# Altium schematic symbol library 排母.SchLib: 42 symbols
Pins are listed as number, name and electrical type; pins without a type are passive.

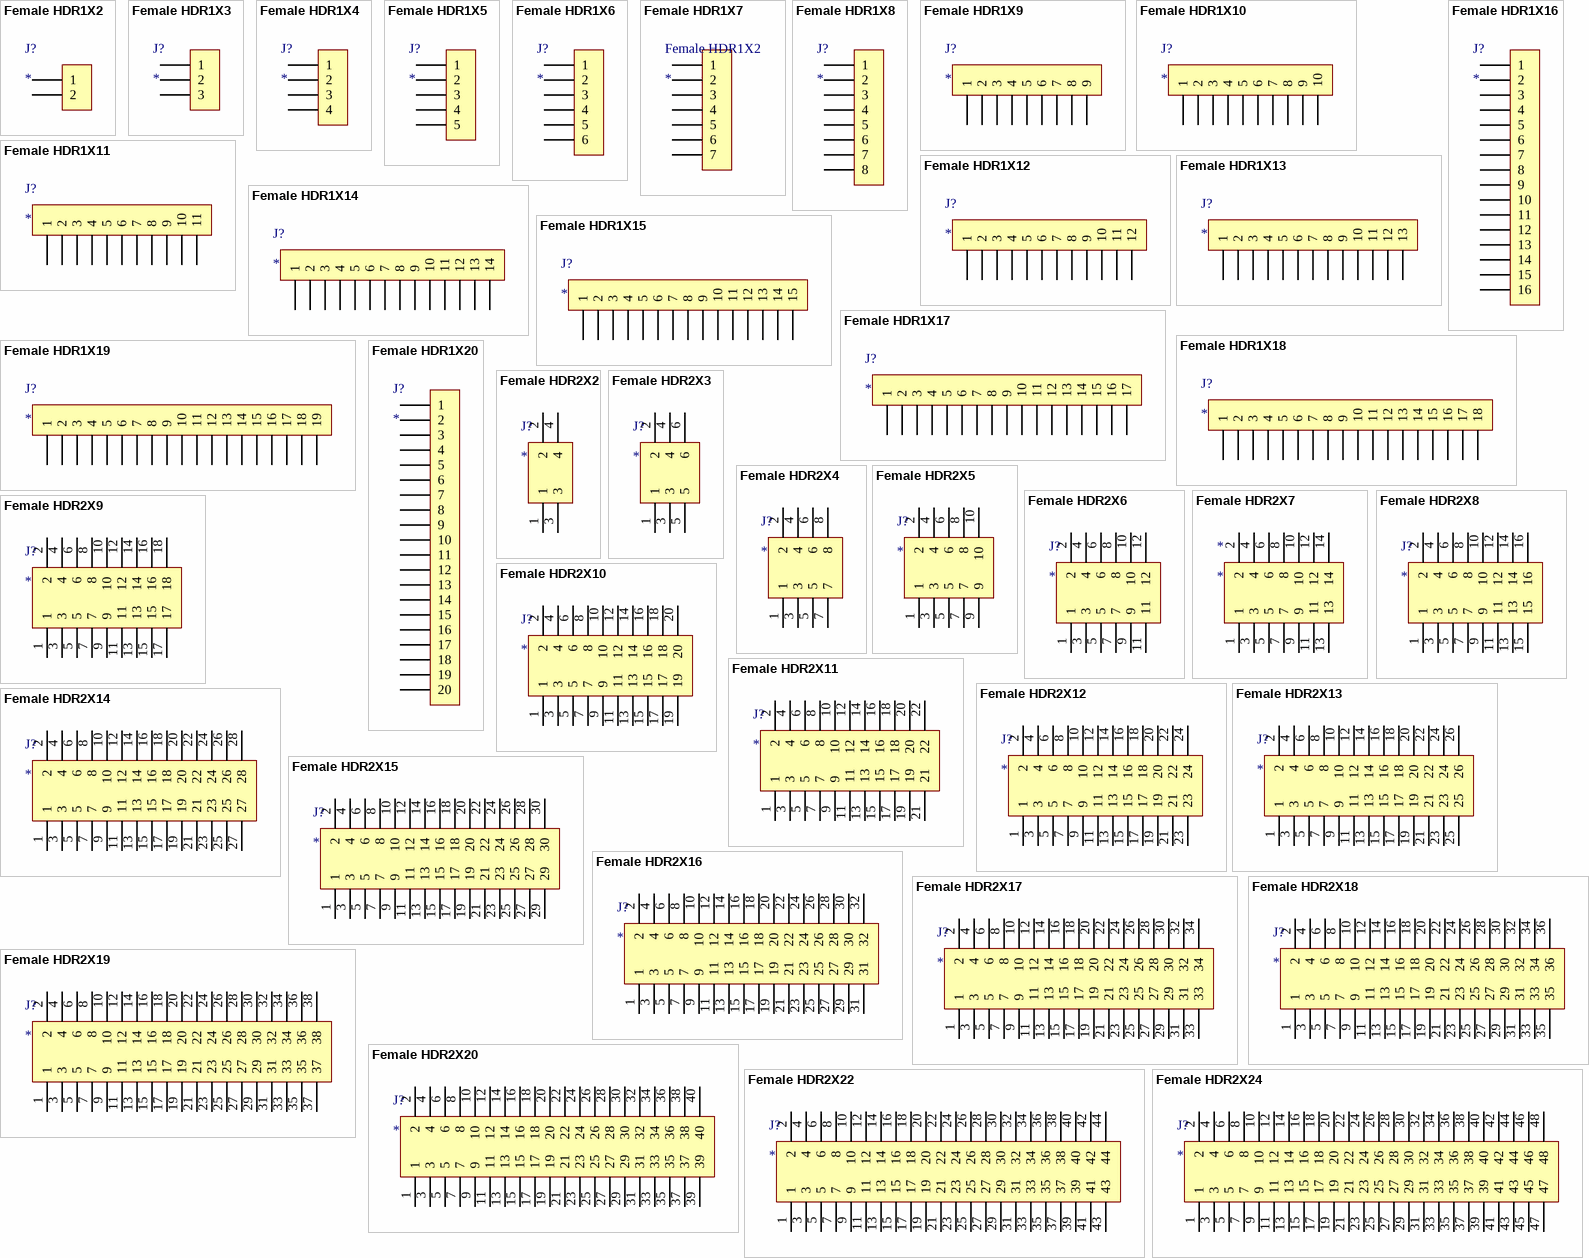
[diagram p0: symbols Female HDR1X2 to Female HDR2X24]

## Female HDR1X2
designator J?
footprint Fe-HDR1X2/2.54-S (Connector; Header; 2x2 Position)
pins: 1, 2

## Female HDR1X3
designator J?
footprint Fe-HDR1X3/2.54-S
pins: 1, 2, 3

## Female HDR1X4
designator J?
footprint Fe-HDR1X4/2.54-S
pins: 1, 2, 3, 4

## Female HDR1X5
designator J?
footprint Fe-HDR1X5/2.54-S
pins: 1, 2, 3, 4, 5

## Female HDR1X6
designator J?
footprint Fe-HDR1X6/2.54-S
pins: 1, 2, 3, 4, 5, 6

## Female HDR1X7
designator Female HDR1X2
footprint Fe-HDR1X7/2.54-S
pins: 1, 2, 3, 4, 5, 6, 7

## Female HDR1X8
designator J?
footprint Fe-HDR1X8/2.54-S
pins: 1, 2, 3, 4, 5, 6, 7, 8

## Female HDR1X9
designator J?
footprint Fe-HDR1X9/2.54-S
pins: 1, 2, 3, 4, 5, 6, 7, 8, 9

## Female HDR1X10
designator J?
footprint Fe-HDR1X10/2.54-S
pins: 1, 2, 3, 4, 5, 6, 7, 8, 9, 10

## Female HDR1X11
designator J?
footprint Fe-HDR1X11/2.54-S
pins: 1, 2, 3, 4, 5, 6, 7, 8, 9, 10, 11

## Female HDR1X12
designator J?
footprint Fe-HDR1X12/2.54-S
pins: 1, 2, 3, 4, 5, 6, 7, 8, 9, 10, 11, 12

## Female HDR1X13
designator J?
footprint Fe-HDR1X13/2.54-S
pins: 1, 2, 3, 4, 5, 6, 7, 8, 9, 10, 11, 12, 13

## Female HDR1X14
designator J?
footprint Fe-HDR1X14/2.54-S
pins: 1, 2, 3, 4, 5, 6, 7, 8, 9, 10, 11, 12, 13, 14

## Female HDR1X15
designator J?
footprint Fe-HDR1X15/2.54-S
pins: 1, 2, 3, 4, 5, 6, 7, 8, 9, 10, 11, 12, 13, 14, 15

## Female HDR1X16
designator J?
footprint Fe-HDR1X16/2.54-S
pins: 1, 2, 3, 4, 5, 6, 7, 8, 9, 10, 11, 12, 13, 14, 15, 16

## Female HDR1X17
designator J?
footprint Fe-HDR1X17/2.54-S
pins: 1, 2, 3, 4, 5, 6, 7, 8, 9, 10, 11, 12, 13, 14, 15, 16, 17

## Female HDR1X18
designator J?
footprint Fe-HDR1X18/2.54-S
pins: 1, 2, 3, 4, 5, 6, 7, 8, 9, 10, 11, 12, 13, 14, 15, 16, 17, 18

## Female HDR1X19
designator J?
footprint Fe-HDR1X19/2.54-S
pins: 1, 2, 3, 4, 5, 6, 7, 8, 9, 10, 11, 12, 13, 14, 15, 16, 17, 18, 19

## Female HDR1X20
designator J?
footprint Fe-HDR1X20/2.54-S
pins: 1, 2, 3, 4, 5, 6, 7, 8, 9, 10, 11, 12, 13, 14, 15, 16, 17, 18, 19, 20

## Female HDR2X2
designator J?
footprint Fe-HDR2X2/2.54-S (Connector; Header; 2x2 Position)
footprint Fe-HDR2X2/2.54-SMD
pins: 1, 2, 3, 4

## Female HDR2X3
designator J?
footprint Fe-HDR2X3/2.54-S (Connector; Header; 3x2 Position)
footprint Fe-HDR2X3/2.54-SMD
pins: 1, 2, 3, 4, 5, 6

## Female HDR2X4
designator J?
footprint Fe-HDR2X4/2.54-S (Connector; Header; 4x2 Position)
footprint Fe-HDR2X4/2.54-SMD
pins: 1, 2, 3, 4, 5, 6, 7, 8

## Female HDR2X5
designator J?
footprint Fe-HDR2X5/2.54-S (Connector; Header; 5x2 Position)
footprint Fe-HDR2X5/2.54-SMD
pins: 1, 2, 3, 4, 5, 6, 7, 8, 9, 10

## Female HDR2X6
designator J?
footprint Fe-HDR2X6/2.54-S (Connector; Header; 6x2 Position)
footprint Fe-HDR2X6/2.54-SMD
pins: 1, 2, 3, 4, 5, 6, 7, 8, 9, 10, 11, 12

## Female HDR2X7
designator *
footprint Fe-HDR2X7/2.54-S (Connector; Header; 7x2 Position)
footprint Fe-HDR2X7/2.54-SMD
pins: 1, 2, 3, 4, 5, 6, 7, 8, 9, 10, 11, 12, 13, 14

## Female HDR2X8
designator J?
footprint Fe-HDR2X8/2.54-S (Connector; Header; 8x2 Position)
footprint Fe-HDR2X8/2.54-SMD
pins: 1, 2, 3, 4, 5, 6, 7, 8, 9, 10, 11, 12, 13, 14, 15, 16

## Female HDR2X9
designator J?
footprint Fe-HDR2X9/2.54-S (Connector; Header; 9x2 Position)
footprint Fe-HDR2X9/2.54-SMD
pins: 1, 2, 3, 4, 5, 6, 7, 8, 9, 10, 11, 12, 13, 14, 15, 16, 17, 18

## Female HDR2X10
designator J?
footprint Fe-HDR2X10/2.54-S (Connector; Header; 10x2 Position)
footprint Fe-HDR2X10/2.54-SMD
pins: 1, 2, 3, 4, 5, 6, 7, 8, 9, 10, 11, 12, 13, 14, 15, 16, 17, 18, 19, 20

## Female HDR2X11
designator J?
footprint Fe-HDR2X11/2.54-S (Connector; Header; 11x2 Position)
footprint Fe-HDR2X11/2.54-SMD
pins: 1, 2, 3, 4, 5, 6, 7, 8, 9, 10, 11, 12, 13, 14, 15, 16, 17, 18, 19, 20, 21, 22

## Female HDR2X12
designator J?
footprint Fe-HDR2X12/2.54-S (Connector; Header; 12x2 Position)
footprint Fe-HDR2X12/2.54-SMD
pins: 1, 2, 3, 4, 5, 6, 7, 8, 9, 10, 11, 12, 13, 14, 15, 16, 17, 18, 19, 20, 21, 22, 23, 24

## Female HDR2X13
designator J?
footprint Fe-HDR2X13/2.54-S (Connector; Header; 13x2 Position)
footprint Fe-HDR2X13/2.54-SMD
pins: 1, 2, 3, 4, 5, 6, 7, 8, 9, 10, 11, 12, 13, 14, 15, 16, 17, 18, 19, 20, 21, 22, 23, 24, 25, 26

## Female HDR2X14
designator J?
footprint Fe-HDR2X14/2.54-S (Connector; Header; 14x2 Position)
footprint Fe-HDR2X14/2.54-SMD
pins: 1, 2, 3, 4, 5, 6, 7, 8, 9, 10, 11, 12, 13, 14, 15, 16, 17, 18, 19, 20, 21, 22, 23, 24, 25, 26, 27, 28

## Female HDR2X15
designator J?
footprint Fe-HDR2X15/2.54-S (Connector; Header; 15x2 Position)
footprint Fe-HDR2X15/2.54-SMD
pins: 1, 2, 3, 4, 5, 6, 7, 8, 9, 10, 11, 12, 13, 14, 15, 16, 17, 18, 19, 20, 21, 22, 23, 24, 25, 26, 27, 28, 29, 30

## Female HDR2X16
designator J?
footprint Fe-HDR2X16/2.54-S (Connector; Header; 16x2 Position)
footprint Fe-HDR2X16/2.54-SMD
pins: 1, 2, 3, 4, 5, 6, 7, 8, 9, 10, 11, 12, 13, 14, 15, 16, 17, 18, 19, 20, 21, 22, 23, 24, 25, 26, 27, 28, 29, 30, 31, 32

## Female HDR2X17
designator J?
footprint Fe-HDR2X17/2.54-S (Connector; Header; 17x2 Position)
footprint Fe-HDR2X17/2.54-SMD
pins: 1, 2, 3, 4, 5, 6, 7, 8, 9, 10, 11, 12, 13, 14, 15, 16, 17, 18, 19, 20, 21, 22, 23, 24, 25, 26, 27, 28, 29, 30, 31, 32, 33, 34

## Female HDR2X18
designator J?
footprint Fe-HDR2X18/2.54-S (Connector; Header; 18x2 Position)
footprint Fe-HDR2X18/2.54-SMD
pins: 1, 2, 3, 4, 5, 6, 7, 8, 9, 10, 11, 12, 13, 14, 15, 16, 17, 18, 19, 20, 21, 22, 23, 24, 25, 26, 27, 28, 29, 30, 31, 32, 33, 34, 35, 36

## Female HDR2X19
designator J?
footprint Fe-HDR2X19/2.54-S (Connector; Header; 19x2 Position)
footprint Fe-HDR2X19/2.54-SMD
pins: 1, 2, 3, 4, 5, 6, 7, 8, 9, 10, 11, 12, 13, 14, 15, 16, 17, 18, 19, 20, 21, 22, 23, 24, 25, 26, 27, 28, 29, 30, 31, 32, 33, 34, 35, 36, 37, 38

## Female HDR2X20
designator J?
footprint Fe-HDR2X20/2.54-S (Connector; Header; 20x2 Position)
footprint Fe-HDR2X20/2.54-SMD
footprint SMT2X20/2.54x3.5Bottom
footprint SMT2X20/2.54X3.5 NonHole
pins: 1, 2, 3, 4, 5, 6, 7, 8, 9, 10, 11, 12, 13, 14, 15, 16, 17, 18, 19, 20, 21, 22, 23, 24, 25, 26, 27, 28, 29, 30, 31, 32, 33, 34, 35, 36, 37, 38, 39, 40

## Female HDR2X22
designator J?
footprint Fe-HDR2X22/2.54-SMD
pins: 1, 2, 3, 4, 5, 6, 7, 8, 9, 10, 11, 12, 13, 14, 15, 16, 17, 18, 19, 20, 21, 22, 23, 24, 25, 26, 27, 28, 29, 30, 31, 32, 33, 34, 35, 36, 37, 38, 39, 40, 41, 42, 43, 44

## Female HDR2X24
designator J?
footprint Fe-HDR2X24/2.54-SMD
pins: 1, 2, 3, 4, 5, 6, 7, 8, 9, 10, 11, 12, 13, 14, 15, 16, 17, 18, 19, 20, 21, 22, 23, 24, 25, 26, 27, 28, 29, 30, 31, 32, 33, 34, 35, 36, 37, 38, 39, 40, 41, 42, 43, 44, 45, 46, 47, 48

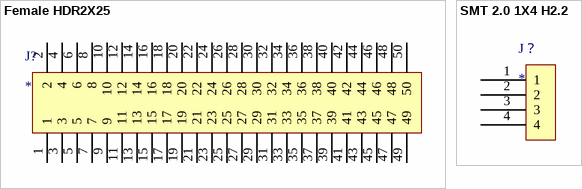
[diagram p1: symbols Female HDR2X25 to SMT 2.0 1X4 H2.2]

## Female HDR2X25
designator J?
footprint Fe-HDR2X26/2.54-SMD
pins: 1, 2, 3, 4, 5, 6, 7, 8, 9, 10, 11, 12, 13, 14, 15, 16, 17, 18, 19, 20, 21, 22, 23, 24, 25, 26, 27, 28, 29, 30, 31, 32, 33, 34, 35, 36, 37, 38, 39, 40, 41, 42, 43, 44, 45, 46, 47, 48, 49, 50

## SMT 2.0 1X4 H2.2
designator J？
贴片2.0排母
footprint 2.0FH 1X4 H2.2 (贴片单排排母)
pins: 1, 2, 3, 4